# Altium schematic symbol library GRM155C80J225KE95D.SchLib: 1 symbol
Pins are listed as number, name and electrical type; pins without a type are passive.

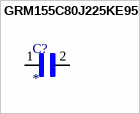
[diagram p0: symbol GRM155C80J225KE95D]

## GRM155C80J225KE95D
designator C?
2.2ÂµF Â±10% 6.3V Ceramic Capacitor X6S 0402 (1005 Metric); MP: GRM155C80J225KE95D; MF: Murata; Digi-Key_Part_Number: 490-10012-1-ND; Check_prices: https://www.snapeda.com/parts/GRM155C80J225KE95D/Murata%20Electronics%20North%20America/view-part/1764715/?ref=eda; Value: *; SnapEDA_Link: https://www.snapeda.com/parts/GRM155C80J225KE95D/Murata%20Electronics%20North%20America/view-part/1764715/?ref=snap; Package: 1005 Taiyo Yuden; Purchase-URL: https://pricing.snapeda.com/search/part/GRM155C80J225KE95D/?ref=eda
footprint CAPC1005X55N
pins: 1, 2